# Altium schematic symbol library M.2 E&M Key.SchLib: 8 symbols
Pins are listed as number, name and electrical type; pins without a type are passive.

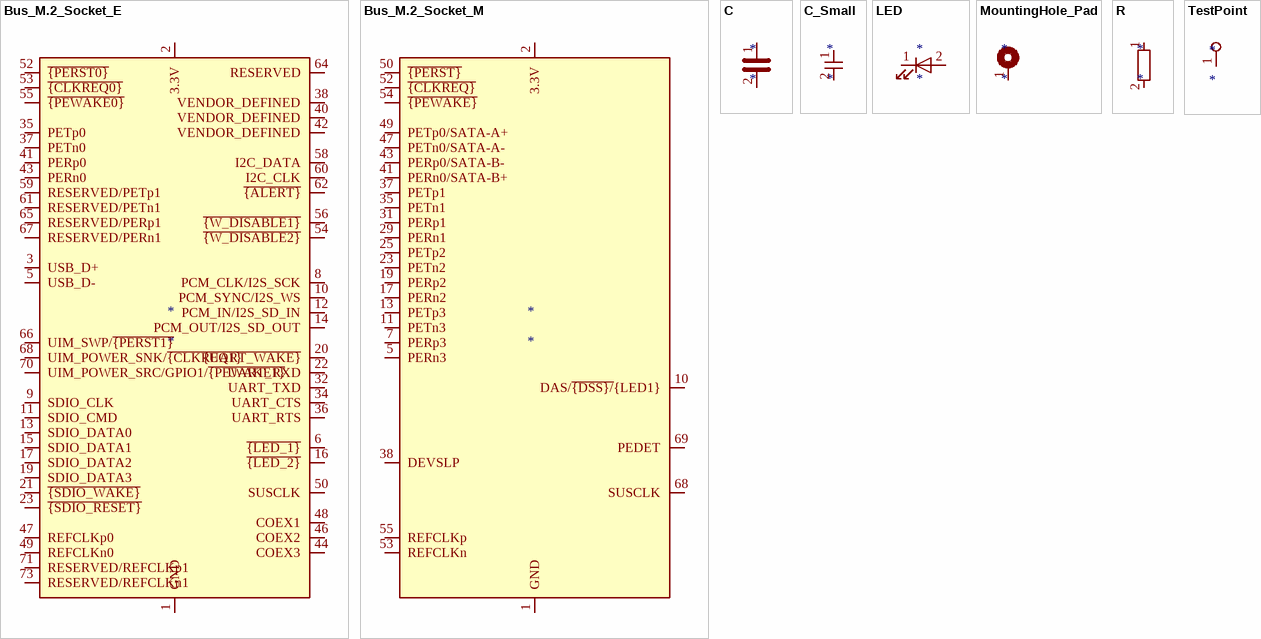
[diagram p0: symbols Bus_M.2_Socket_E to TestPoint]

## Bus_M.2_Socket_E
designator *
pins: 1 GND, 2 3.3V, 3 USB_D+, 4 3.3V hidden, 5 USB_D-, 6 ~{{LED_1}}, 7 GND hidden, 8 PCM_CLK/I2S_SCK, 9 SDIO_CLK, 10 PCM_SYNC/I2S_WS, 11 SDIO_CMD, 12 PCM_IN/I2S_SD_IN, 13 SDIO_DATA0, 14 PCM_OUT/I2S_SD_OUT, 15 SDIO_DATA1, 16 ~{{LED_2}}, 17 SDIO_DATA2, 18 GND hidden, 19 SDIO_DATA3, 20 ~{{UART_WAKE}}, 21 ~{{SDIO_WAKE}}, 22 UART_RXD, 23 ~{{SDIO_RESET}}, 32 UART_TXD, 33 GND hidden, 34 UART_CTS, 35 PETp0, 36 UART_RTS, 37 PETn0, 38 VENDOR_DEFINED, 39 GND hidden, 40 VENDOR_DEFINED, 41 PERp0, 42 VENDOR_DEFINED, 43 PERn0, 44 COEX3, 45 GND hidden, 46 COEX2, 47 REFCLKp0, 48 COEX1, 49 REFCLKn0, 50 SUSCLK, 51 GND hidden, 52 ~{{PERST0}}, 53 ~{{CLKREQ0}}, 54 ~{{W_DISABLE2}}, 55 ~{{PEWAKE0}}, 56 ~{{W_DISABLE1}}, 57 GND hidden, 58 I2C_DATA, 59 RESERVED/PETp1, 60 I2C_CLK, 61 RESERVED/PETn1, 62 ~{{ALERT}}, 63 GND hidden, 64 RESERVED, 65 RESERVED/PERp1, 66 UIM_SWP/~{{PERST1}}, 67 RESERVED/PERn1, 68 UIM_POWER_SNK/~{{CLKREQ1}}, 69 GND hidden, 70 UIM_POWER_SRC/GPIO1/~{{PEWAKE1}}, 71 RESERVED/REFCLKp1, 72 3.3V hidden, 73 RESERVED/REFCLKn1, 74 3.3V hidden, 75 GND hidden, MP1 hidden, MP2 hidden

## Bus_M.2_Socket_M
designator *
pins: 1 GND, 2 3.3V, 3 GND hidden, 4 3.3V hidden, 5 PERn3, 6 NC hidden, 7 PERp3, 8 NC hidden, 9 GND hidden, 10 DAS/~{{DSS}/}{LED1}, 11 PETn3, 12 3.3V hidden, 13 PETp3, 14 3.3V hidden, 15 GND hidden, 16 3.3V hidden, 17 PERn2, 18 3.3V hidden, 19 PERp2, 20 NC hidden, 21 GND hidden, 22 NC hidden, 23 PETn2, 24 NC hidden, 25 PETp2, 26 NC hidden, 27 GND hidden, 28 NC hidden, 29 PERn1, 30 NC hidden, 31 PERp1, 32 NC hidden, 33 GND hidden, 34 NC hidden, 35 PETn1, 36 NC hidden, 37 PETp1, 38 DEVSLP, 39 GND hidden, 40 NC hidden, 41 PERn0/SATA-B+, 42 NC hidden, 43 PERp0/SATA-B-, 44 NC hidden, 45 GND hidden, 46 NC hidden, 47 PETn0/SATA-A-, 48 NC hidden, 49 PETp0/SATA-A+, 50 ~{{PERST}}, 51 GND hidden, 52 ~{{CLKREQ}}, 53 REFCLKn, 54 ~{{PEWAKE}}, 55 REFCLKp, 56 NC hidden, 57 GND hidden, 58 NC hidden, 67 NC hidden, 68 SUSCLK, 69 PEDET, 70 3.3V hidden, 71 GND hidden, 72 3.3V hidden, 73 GND hidden, 74 3.3V hidden, 75 GND hidden, MP1 hidden, MP2 hidden

## C
designator *
pins: 1, 2

## C_Small
designator *
pins: 1, 2

## LED
designator *
pins: 1 K, 2 A

## MountingHole_Pad
designator *
pins: 1

## R
designator *
pins: 1, 2

## TestPoint
designator *
pins: 1